# EAGLE library part EC2-12TNU (library SamacSys_Parts)
DPDT Through Hole Latching Relay, 2 A, 12V dc Source: Datasheet <https://componentsearchengine.com/Datasheets/1/EC2-12TNU.pdf>
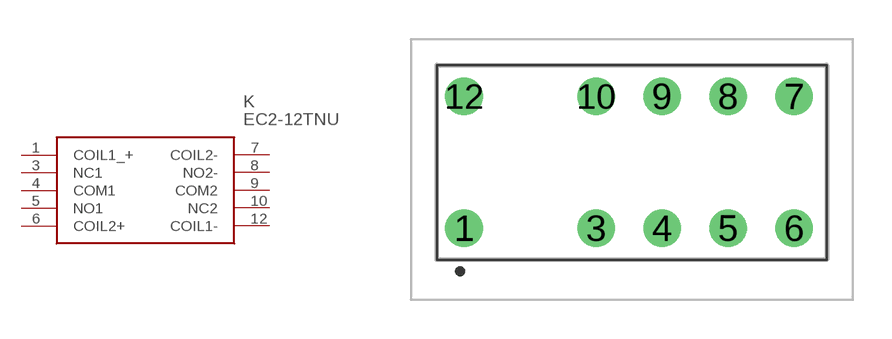
[diagram p4: symbol with the pads of EC212TNU; footprint EC212TNU]

Designator prefix K

## EC2-12TNU (Description: DPDT Through Hole Latching Relay, 2 A, 12V dc; Height: 9mm; Manufacturer_Name: Kemet; Manufacturer_Part_Number: EC2-12TNU; Mouser_Part_Number: 80-EC2-12TNU)  [EC212TNU]
1  COIL1_+
3  NC1
4  COM1
5  NO1
6  COIL2+
7  COIL2-
8  NO2-
9  COM2
10  NC2
12  COIL1-

## Footprint EC212TNU (pad centres in mm)
EC2
drill 0.89 pad 1.446: 1 -6.45,-2.265; 3 -1.37,-2.265; 4 1.17,-2.265; 5 3.71,-2.265; 6 6.25,-2.265; 7 6.25,2.815; 8 3.71,2.815; 9 1.17,2.815; 10 -1.37,2.815; 12 -6.45,2.815